# Altium footprint library DIP-T  0607.PCBlib: 108 footprints (part 1 of 7)
Each footprint in its own frame and in the unit in brackets; x right, y up, seen from the top. Pads: shape width x height; smd on the part's side, far side on the other; paste and mask are expansions set on the pad; w line width, h text height; cw(c..) or ccw(c..) is an arc to the next point about the centre after c.
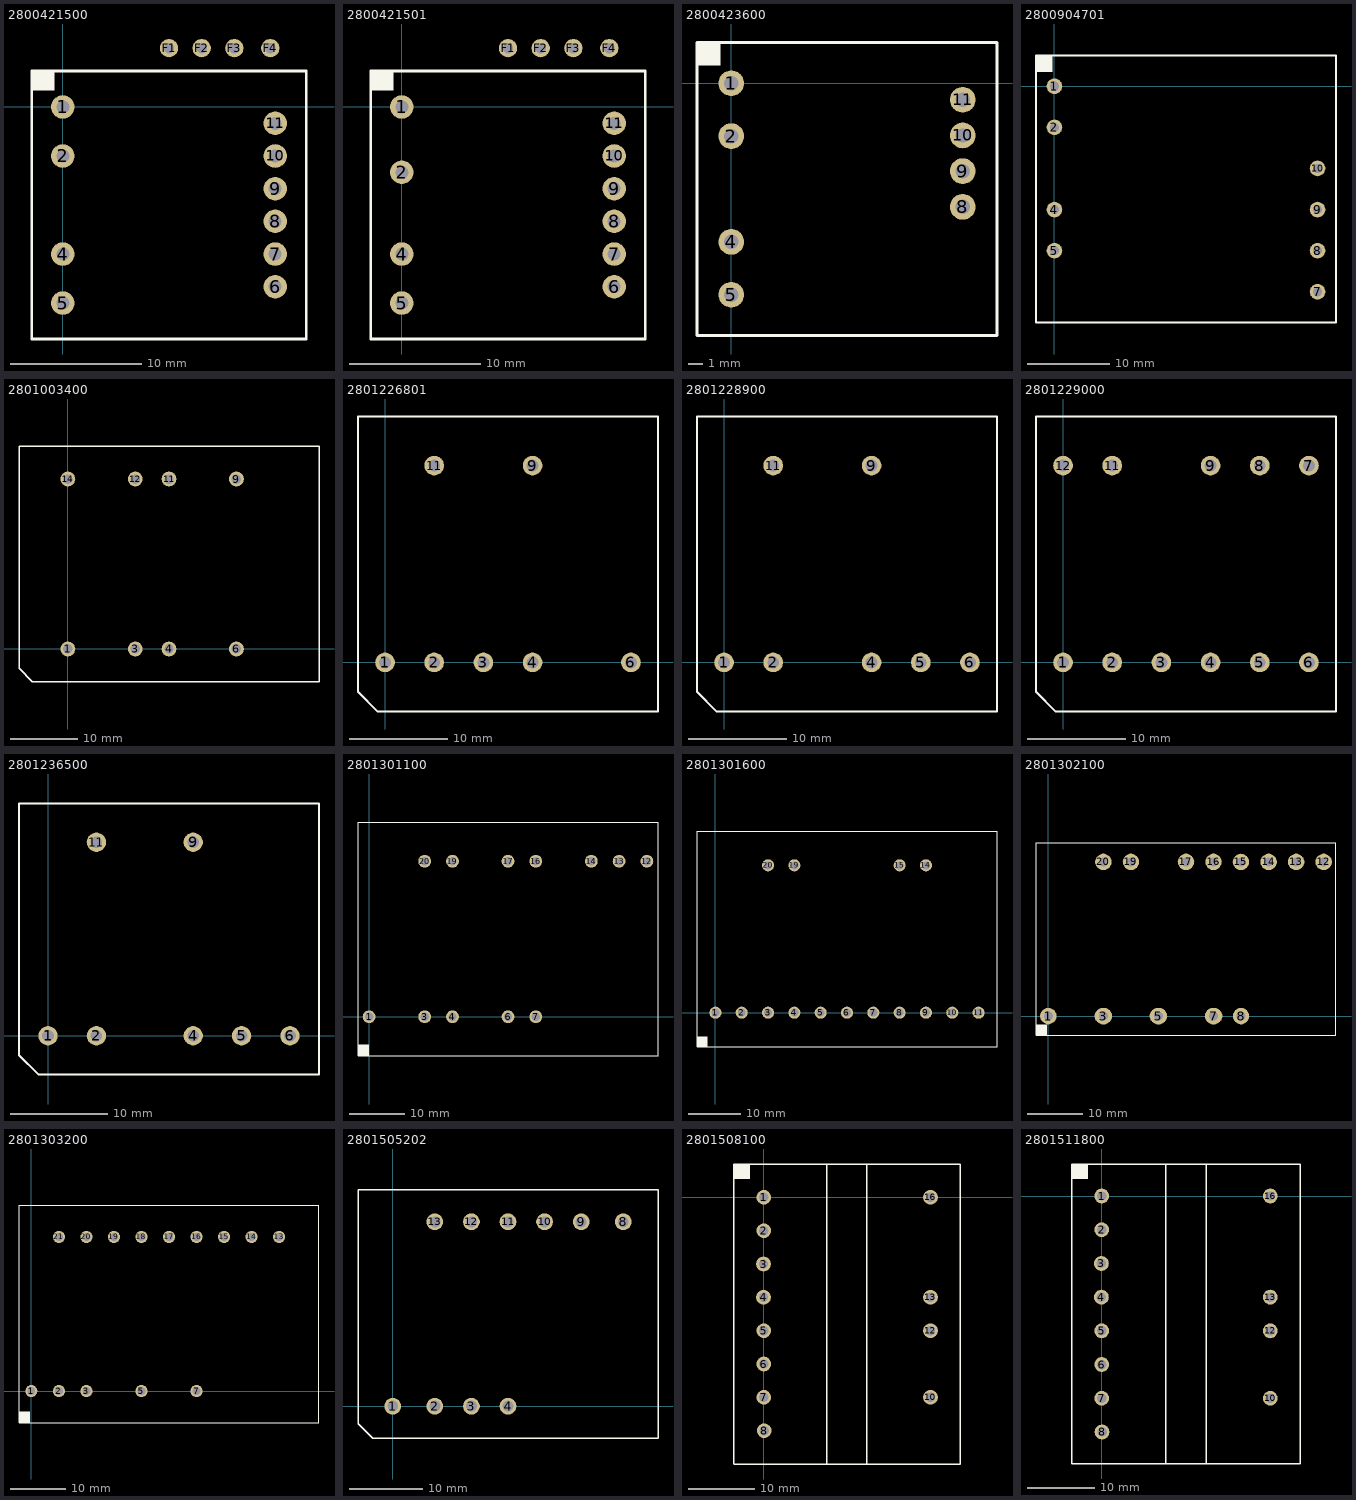
[diagram p0: the footprints below, top view; thin cyan lines are the x and y axes]

## 2800421500 [mm] "SMT-19H-946A"
height 14.85
pads (14):
  round 1.8 hole 1: 1(0,0) 2(0,-3.75) 4(0,-11.25) 5(0,-15) 6(16.25,-13.75) 7(16.25,-11.25) 8(16.25,-8.75) 9(16.25,-6.25) 10(16.25,-3.75) 11(16.25,-1.25)
  round 1.4 hole 0.8: F1(8.125,4.5) F2(10.625,4.5) F3(13.125,4.5) F4(15.875,4.5)
Top Overlay:
  rectangle: -2.375,1.25 -0.625,2.75
  lines w0.2: -2.375,-17.75 18.625,-17.75 18.625,2.75 -2.375,2.75 -2.375,-17.75

## 2800421501 [mm] "SMT-19H-946A"
height 14.85
pads (14):
  round 1.8 hole 1: 1(0,0) 2(0,-5) 4(0,-11.25) 5(0,-15) 6(16.25,-13.75) 7(16.25,-11.25) 8(16.25,-8.75) 9(16.25,-6.25) 10(16.25,-3.75) 11(16.25,-1.25)
  round 1.4 hole 0.8: F1(8.125,4.5) F2(10.625,4.5) F3(13.125,4.5) F4(15.875,4.5)
Top Overlay:
  rectangle: -2.375,1.25 -0.625,2.75
  lines w0.2: -2.375,-17.75 -2.375,2.75 18.625,2.75 18.625,-17.75 -2.375,-17.75

## 2800423600 [mm] "SMT-19H-1199A"
height 14
pads (8):
  round 1.8 hole 1: 1(0,0) 2(0,-3.7) 4(0,-11.1) 5(0,-14.8) 8(16.2,-8.65) 9(16.2,-6.15) 10(16.2,-3.65) 11(16.2,-1.15)
Top Overlay:
  rectangle: -2.4,1.25 -0.75,2.85
  lines w0.2: -2.4,-17.65 18.6,-17.65 18.6,2.85 -2.4,2.85 -2.4,-17.65

## 2800904701 [mm] "AH-TP5009A"
height 16
pads (8):
  round 1.9 hole 1.1: 1(0,0) 2(0,-5) 4(0,-15) 5(0,-20) 7(32,-25) 8(32,-20) 9(32,-15) 10(32,-10)
Top Overlay:
  rectangle: -2.25,1.75 -0.25,3.75
  lines w0.2: -2.25,-28.75 34.25,-28.75 34.25,3.75 -2.25,3.75 -2.25,-28.75

## 2801003400 [mm]
height 50
pads (8):
  round 2.2 hole 1.4: 1(0,0) 3(10,0) 4(15,0) 6(25,0) 9(25,25.2) 11(15,25.2) 12(10,25.2) 14(0,25.2)
Top Overlay:
  lines w0.2: -7.25,-2.9 -5.25,-4.9 37.25,-4.9 37.25,30.1 -7.25,30.1 -7.25,-2.9

## 2801226801 [mm] "SMT-28RV-1017A"
height 39
pads (7):
  round 2 hole 1.2: 1(0,0) 2(5,0) 3(10,0) 4(15,0) 6(25,0) 9(15,20) 11(5,20)
Top Overlay:
  lines w0.2: -2.75,-3 -0.75,-5 27.75,-5 27.75,25 -2.75,25 -2.75,-3

## 2801228900 [mm] "SMT-28RV-1064A"
height 39
pads (7):
  round 2 hole 1.2: 1(0,0) 2(5,0) 4(15,0) 5(20,0) 6(25,0) 9(15,20) 11(5,20)
Top Overlay:
  lines w0.2: -2.75,-3 -0.75,-5 27.75,-5 27.75,25 -2.75,25 -2.75,-3

## 2801229000 [mm]
height 39
pads (11):
  round 2 hole 1.2: 1(0,0) 2(5,0) 3(10,0) 4(15,0) 5(20,0) 6(25,0) 7(25,20) 8(20,20) 9(15,20) 11(5,20) 12(0,20)
Top Overlay:
  lines w0.2: -2.75,-3 -2.75,25 27.75,25 27.75,-5 -0.75,-5 -2.75,-3

## 2801236500 [mm]
height 38
pads (7):
  round 2 hole 1.2: 1(0,0) 2(5,0) 4(15,0) 5(20,0) 6(25,0) 9(15,20) 11(5,20)
Top Overlay:
  lines w0.2: -3,-2 -1,-4 28,-4 28,24 -3,24 -3,-2

## 2801301100 [mm] "SMT-49RV-1014A"
height 61
pads (12):
  round 2.3 hole 1.5: 1(0,0) 3(10,0) 4(15,0) 6(25,0) 7(30,0) 12(50,28) 13(45,28) 14(40,28) 16(30,28) 17(25,28) 19(15,28) 20(10,28)
Top Overlay:
  rectangle: -2,-7 0,-5
  lines w0.2: -2,-7 -2,35 52,35 52,-7 -2,-7

## 2801301600 [mm]
height 61
pads (15):
  round 2.3 hole 1.5: 1(0,0) 2(5,0) 3(10,0) 4(15,0) 5(20,0) 6(25,0) 7(30,0) 8(35,0) 9(40,0) 10(45,0) 11(50,0) 14(40,28) 15(35,28) 19(15,28) 20(10,28)
Top Overlay:
  rectangle: -3.5,-6.5 -1.5,-4.5
  lines w0.2: -3.5,-6.5 53.5,-6.5 53.5,34.5 -3.5,34.5 -3.5,-6.5

## 2801302100 [mm] "SMT-49RV-UT2067"
height 61
pads (14):
  round 3 hole 1.6: 1(0,0) 8(35,0) 12(50,28) 13(45,28) 14(40,28) 15(34.99,27.99) 16(30,28) 17(25,28) 19(15,28) 20(10,28)
  oval 3.2x3 hole 1.6: 3(10,0) 5(20,0) 7(30,0)
  round 0 all layers, no hole: 5(20,0)
Top Overlay:
  region: -0.25,-3.5 -0.25,-1.5 -2.25,-1.5 -2.25,-3.5
  lines w0.2: -2.25,-3.5 52.25,-3.5 52.25,31.5 -2.25,31.5 -2.25,-3.5

## 2801303200 [mm] "SMT-49RV-UT4120"
height 61
pads (14):
  round 2.2 hole 1.4: 1(0,0) 2(5,0) 3(10,0) 5(20,0) 7(30,0) 13(45,28) 14(40,28) 15(35,28) 16(30,28) 17(25,28) 18(20,28) 19(15,28) 20(10,28) 21(5,28)
Top Overlay:
  rectangle: -2.25,-5.75 -0.25,-3.75
  lines w0.2: -2.25,-5.75 -2.25,33.75 52.25,33.75 52.25,-5.75 -2.25,-5.75

## 2801505202 [mm]
height 51
pads (10):
  round 2.3 hole 1.5: 1(0,0) 2(5.75,0) 3(10.75,0) 4(15.75,0) 8(31.5,25.2) 9(25.75,25.2) 10(20.75,25.2) 11(15.75,25.2) 12(10.75,25.2) 13(5.75,25.2)
Top Overlay:
  lines w0.2: -4.75,-2.4 -4.75,29.6 36.25,29.6 36.25,-4.4 -2.75,-4.4 -4.75,-2.4

## 2801508100 [mm]
height 52
pads (12):
  round 2.2 hole 1.4: 1(0,0) 2(0,-5) 3(-0.05,-10) 4(-0.05,-15) 5(0,-20) 6(0,-25) 7(0,-30) 8(0.05,-35) 10(25,-30) 12(25,-20) 13(25,-15) 16(25,0)
Top Overlay:
  rectangle: -4.525,2.75 -2.05,5
  lines w0.2: 9.475,-40 9.475,5 ; 15.475,-40 15.475,5 ; -4.525,-40 29.475,-40 29.475,5 -4.525,5 -4.525,-40

## 2801511800 [mm]
height 51
pads (12):
  round 2.2 hole 1.4: 1(0,0) 2(0,-5) 3(-0.05,-10) 4(-0.05,-15) 5(0,-20) 6(0,-25) 7(0,-30) 8(0.05,-35) 10(25,-30) 12(25,-20) 13(25,-15) 16(25,0)
Top Overlay:
  rectangle: -4.475,2.5 -2,4.75
  lines w0.2: 9.475,-39.75 9.475,4.75 ; 15.475,-39.75 15.475,4.75 ; -4.475,-39.75 29.475,-39.75 29.475,4.75 -4.475,4.75 -4.475,-39.75